# EAGLE library part TIVA-BOARD (library tiva-board)
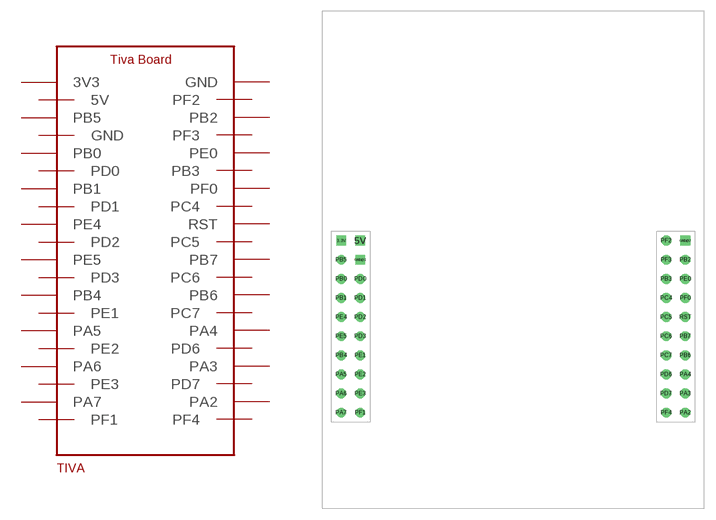
[diagram p0: symbol with the pads of TIVA-BOARD; footprint TIVA-BOARD]

Designator prefix TIVA

## TIVA-BOARD  [TIVA-BOARD]
3.3V  3V3
5V  5V
GND@1  GND
GND@2  GND
PA2  PA2
PA3  PA3
PA4  PA4
PA5  PA5
PA6  PA6
PA7  PA7
PB0  PB0
PB1  PB1
PB2  PB2
PB3  PB3
PB4  PB4
PB5  PB5
PB6  PB6
PB7  PB7
PC4  PC4
PC5  PC5
PC6  PC6
PC7  PC7
PD0  PD0
PD1  PD1
PD2  PD2
PD3  PD3
PD6  PD6
PD7  PD7
PE0  PE0
PE1  PE1
PE2  PE2
PE3  PE3
PE4  PE4
PE5  PE5
PF0  PF0
PF1  PF1
PF2  PF2
PF3  PF3
PF4  PF4
RST  RST

## Footprint TIVA-BOARD (pad centres in mm)
drill 0.8 square: 3.3V -22.86,2.54; 5V -20.32,2.54; GND@1 -20.32,0; GND@2 22.86,2.54
drill 0.8: PA2 22.86,-20.32; PA3 22.86,-17.78; PA4 22.86,-15.24; PA5 -22.86,-15.24; PA6 -22.86,-17.78; PA7 -22.86,-20.32; PB0 -22.86,-2.54; PB1 -22.86,-5.08; PB2 22.86,0; PB3 20.32,-2.54; PB4 -22.86,-12.7; PB5 -22.86,0; PB6 22.86,-12.7; PB7 22.86,-10.16; PC4 20.32,-5.08; PC5 20.32,-7.62; PC6 20.32,-10.16; PC7 20.32,-12.7; PD0 -20.32,-2.54; PD1 -20.32,-5.08; PD2 -20.32,-7.62; PD3 -20.32,-10.16; PD6 20.32,-15.24; PD7 20.32,-17.78; PE0 22.86,-2.54; PE1 -20.32,-12.7; PE2 -20.32,-15.24; PE3 -20.32,-17.78; PE4 -22.86,-7.62; PE5 -22.86,-10.16; PF0 22.86,-5.08; PF1 -20.32,-20.32; PF2 20.32,2.54; PF3 20.32,0; PF4 20.32,-20.32; RST 22.86,-7.62